# Altium schematic symbol library BMS_Master.SchLib: 20 symbols
Pins are listed as number, name and electrical type; pins without a type are passive.

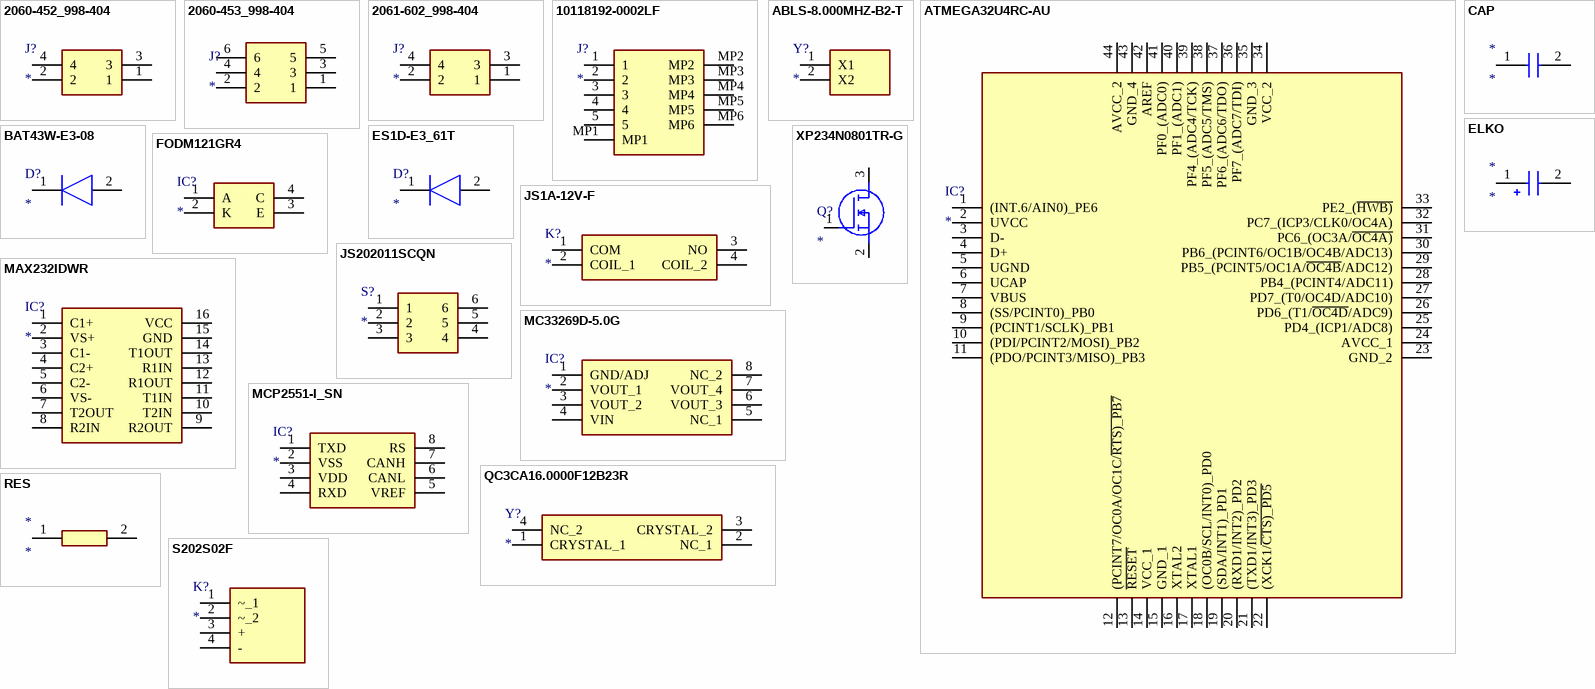
[diagram p0: symbols 2060-452_998-404 to XP234N0801TR-G]

## 2060-452_998-404
designator J?
Connector; Manufacturer_Name: Wago; Manufacturer_Part_Number: 2061-602/998-404; Arrow Part Number: 2060-452/998-404; Arrow Price/Stock: https://www.arrow.com/en/products/2060-452998-404/wago-kontakttechnik-gmbh?region=nac
footprint 2060-452998-404
pins: 1, 2, 3, 4

## 2060-453_998-404
designator J?
Connector; Manufacturer_Name: Wago; Manufacturer_Part_Number: 2060-452/998-404; Arrow Part Number: 2060-452/998-404; Arrow Price/Stock: https://www.arrow.com/en/products/2060-452998-404/wago-kontakttechnik-gmbh?region=nac
footprint 2060-453998-404
pins: 1, 2, 3, 4, 5, 6

## 2061-602_998-404
designator J?
Connector; Manufacturer_Name: Wago; Manufacturer_Part_Number: 2060-452/998-404; Arrow Part Number: 2060-452/998-404; Arrow Price/Stock: https://www.arrow.com/en/products/2060-452998-404/wago-kontakttechnik-gmbh?region=nac
footprint 2061-602998-404
pins: 1, 2, 3, 4

## 10118192-0002LF
designator J?
Connector; Manufacturer_Name: Amphenol; Manufacturer_Part_Number: 10118192-0002LF; Datasheet Link: https://componentsearchengine.com/Datasheets/1/10118192-0002LF.pdf; Height: 3.05mm; Mouser Part Number: 649-10118192-0002LF; Mouser Price/Stock: https://www.mouser.co.uk/ProductDetail/Amphenol-FCI/10118192-0002LF?qs=KVgMXE4aH4nIkuWlMxQzog%3D%3D; Arrow Part Number: 10118192-0002LF; Arrow Price/Stock: https://www.arrow.com/en/products/10118192-0002lf/amphenol-fci?region=nac
footprint 101181920002LF
pins: 1, 2, 3, 4, 5, MP1, MP2, MP3, MP4, MP5, MP6

## ABLS-8.000MHZ-B2-T
designator Y?
Crystal or Oscillator; Manufacturer_Name: ABRACON; Manufacturer_Part_Number: ABLS-8.000MHZ-B2-T; Datasheet Link: http://www.abracon.com/Resonators/abls.pdf; Height: 4.2mm; Mouser Part Number: 815-ABLS-8-B2; Mouser Price/Stock: https://www.mouser.co.uk/ProductDetail/ABRACON/ABLS-8000MHZ-B2-T?qs=H8AWquzS%2FlOPBpG0T30dWA%3D%3D; Arrow Part Number: ABLS-8.000MHZ-B2-T; Arrow Price/Stock: https://www.arrow.com/en/products/abls-8.000mhz-b2-t/abracon?region=nac
footprint ABLS8000MHZB2T
pins: 1 X1, 2 X2

## ATMEGA32U4RC-AU
designator IC?
Integrated Circuit; Manufacturer_Name: Microchip; Manufacturer_Part_Number: ATMEGA32U4RC-AU; Datasheet Link: http://uk.rs-online.com/web/p/products/7380451; Height: 1.2mm; Mouser Part Number: 556-ATMEGA32U4RC-AU; Mouser Price/Stock: https://www.mouser.co.uk/ProductDetail/Microchip-Technology-Atmel/ATMEGA32U4RC-AU?qs=7AReRZHh%2FSt%252BRqfzkW8%2FkA%3D%3D; Arrow Part Number: ATMEGA32U4RC-AU; Arrow Price/Stock: https://www.arrow.com/en/products/atmega32u4rc-au/microchip-technology?region=nac
footprint QFP80P1200X1200X120-44N
pins: 1 (INT.6/AIN0)_PE6, 2 UVCC, 3 D-, 4 D+, 5 UGND, 6 UCAP, 7 VBUS, 8 (SS/PCINT0)_PB0, 9 (PCINT1/SCLK)_PB1, 10 (PDI/PCINT2/MOSI)_PB2, 11 (PDO/PCINT3/MISO)_PB3, 12 (PCINT7/OC0A/OC1C/~{RTS)_PB7}, 13 ~{RESET}, 14 VCC_1, 15 GND_1, 16 XTAL2, 17 XTAL1, 18 (OC0B/SCL/INT0)_PD0, 19 (SDA/INT1)_PD1, 20 (RXD1/INT2)_PD2, 21 (TXD1/INT3)_PD3, 22 (XCK1/~{CTS)_PD5}, 23 GND_2, 24 AVCC_1, 25 PD4_(ICP1/ADC8), 26 PD6_(T1/~{OC4D}/ADC9), 27 PD7_(T0/OC4D/ADC10), 28 PB4_(PCINT4/ADC11), 29 PB5_(PCINT5/OC1A/~{OC4B}/ADC12), 30 PB6_(PCINT6/OC1B/OC4B/ADC13), 31 PC6_(OC3A/~{OC4A)}, 32 PC7_(ICP3/CLK0/OC4A), 33 PE2_(~{HWB)}, 34 VCC_2, 35 GND_3, 36 PF7_(ADC7/TDI), 37 PF6_(ADC6/TDO), 38 PF5_(ADC5/TMS), 39 PF4_(ADC4/TCK), 40 PF1_(ADC1), 41 PF0_(ADC0), 42 AREF, 43 GND_4, 44 AVCC_2

## BAT43W-E3-08
designator D?
Diode; Manufacturer_Name: Vishay; Manufacturer_Part_Number: BAT43W-E3-08; Description: Schottky Diodes & Rectifiers 30Volt 200mA 4A IFSM; Datasheet Link: https://www.arrow.com/en/products/bat43w-e3-08/vishay; Height: 1.35mm; Mouser Part Number: 78-BAT43W-E3-08; Mouser Price/Stock: https://www.mouser.co.uk/ProductDetail/Vishay-Semiconductors/BAT43W-E3-08?qs=KP8Io%2FXyE5RCw3lmmA3XwQ%3D%3D; Arrow Part Number: BAT43W-E3-08; Arrow Price/Stock: https://www.arrow.com/en/products/bat43w-e3-08/vishay?region=nac
footprint SOD3716X135N
pins: 1 K, 2 A

## CAP
designator *
footprint CAPC1608X90N
pins: 1, 2

## ELKO
designator *
footprint CAPAE530X550N
pins: 1 +, 2 -

## ES1D-E3_61T
designator D?
Diode; Manufacturer_Name: Vishay; Manufacturer_Part_Number: ES1D-E3/61T; Datasheet Link: https://componentsearchengine.com/Datasheets/2/ES1D-E3_61T.pdf; Height: 2.29mm; Mouser Part Number: 625-ES1D-E3; Mouser Price/Stock: https://www.mouser.co.uk/ProductDetail/Vishay-General-Semiconductor/ES1D-E3-61T?qs=rfh7uIuiIO0XwaKoN5aNdQ%3D%3D; Arrow Part Number: ES1D-E3/61T; Arrow Price/Stock: https://www.arrow.com/en/products/es1d-e361t/vishay
footprint DIOM5127X229N
pins: 1 K, 2 A

## FODM121GR4
designator IC?
Integrated Circuit; Manufacturer_Name: ON Semiconductor; Manufacturer_Part_Number: FODM121GR4; Datasheet Link: https://www.onsemi.com/pub/Collateral/FODM2705-D.pdf; Height: 2.4mm; Mouser Part Number: 863-FODM121GR4; Mouser Price/Stock: https://www.mouser.co.uk/ProductDetail/onsemi/FODM121GR4?qs=byeeYqUIh0Okw76KHw6rZA%3D%3D
footprint SOP254P675X240-4N
pins: 1 A, 2 K, 3 E, 4 C

## JS1A-12V-F
designator K?
Relay or Contactor; Manufacturer_Name: Panasonic; Manufacturer_Part_Number: JS1A-12V-F; Datasheet Link: https://componentsearchengine.com/Datasheets/2/JS1A-12V-F.pdf; Height: 16.4mm; Mouser Part Number: 769-JS1A-12V-F; Mouser Price/Stock: https://www.mouser.co.uk/ProductDetail/Panasonic/JS1A-12V-F?qs=sEN%2FkO1EG6bHk8GQE7PEaQ%3D%3D; Arrow Part Number: JS1A-12V-F; Arrow Price/Stock: https://www.arrow.com/en/products/js1a-12v-f/panasonic
footprint JS1A12VF
pins: 1 COM, 2 COIL_1, 3 NO, 4 COIL_2

## JS202011SCQN
designator S?
Switch; Manufacturer_Name: C & K COMPONENTS; Manufacturer_Part_Number: JS202011SCQN; Datasheet Link: http://www.ckswitches.com/media/1422/js.pdf; Height: 5.5mm; Mouser Part Number: 611-JS202011SCQN; Mouser Price/Stock: https://www.mouser.co.uk/ProductDetail/CK/JS202011SCQN?qs=LgMIjt8LuD95JYWxZ7NvZA%3D%3D; Arrow Part Number: JS202011SCQN; Arrow Price/Stock: https://www.arrow.com/en/products/js202011scqn/ck?region=nac
footprint JS202011SCQN
pins: 1, 2, 3, 4, 5, 6

## MAX232IDWR
designator IC?
Integrated Circuit; Manufacturer_Name: Texas Instruments; Manufacturer_Part_Number: MAX232IDWR; Datasheet Link: http://www.ti.com/lit/gpn/max232?HQS=ti-null-null-sf-df-pf-sep-wwe&DCM=yes; Height: 2.65mm; Mouser Part Number: 595-MAX232IDWR; Mouser Price/Stock: https://www.mouser.co.uk/ProductDetail/Texas-Instruments/MAX232IDWR?qs=NLW4NjXEBS5p6v4OAKxw4g%3D%3D; Arrow Part Number: MAX232IDWR; Arrow Price/Stock: https://www.arrow.com/en/products/max232idwr/texas-instruments?region=nac
footprint SOIC127P1030X265-16N
pins: 1 C1+, 2 VS+, 3 C1-, 4 C2+, 5 C2-, 6 VS-, 7 T2OUT, 8 R2IN, 9 R2OUT, 10 T2IN, 11 T1IN, 12 R1OUT, 13 R1IN, 14 T1OUT, 15 GND, 16 VCC

## MC33269D-5.0G
designator IC?
Integrated Circuit; Manufacturer_Name: ON Semiconductor; Manufacturer_Part_Number: MC33269D-5.0G; Datasheet Link: http://www.onsemi.com/pub/Collateral/MC33269-D.PDF; Height: 1.75mm; Mouser Part Number: 863-MC33269D-5.0G; Mouser Price/Stock: https://www.mouser.co.uk/ProductDetail/onsemi/MC33269D-50G?qs=dFKnUM%2FquJZ0YuZ%252B66PKCA%3D%3D; Arrow Part Number: MC33269D-5.0G; Arrow Price/Stock: https://www.arrow.com/en/products/mc33269d-5.0g/on-semiconductor?region=nac
footprint SOIC127P600X175-8N
pins: 1 GND/ADJ, 2 VOUT_1, 3 VOUT_2, 4 VIN, 5 NC_1, 6 VOUT_3, 7 VOUT_4, 8 NC_2

## MCP2551-I_SN
designator IC?
Integrated Circuit; Manufacturer_Name: Microchip; Manufacturer_Part_Number: MCP2551-I/SN; Datasheet Link: https://datasheet.datasheetarchive.com/originals/distributors/Datasheets-34/DSA-674994.pdf; Height: 1.75mm; Mouser Part Number: 579-MCP2551-I/SN; Mouser Price/Stock: https://www.mouser.co.uk/ProductDetail/Microchip-Technology/MCP2551-I-SN?qs=9y3LFqDLL8L5zFfqqxdOHg%3D%3D; Arrow Part Number: MCP2551-I/SN; Arrow Price/Stock: https://www.arrow.com/en/products/mcp2551-isn/microchip-technology?region=nac
footprint SOIC127P600X175-8N
pins: 1 TXD, 2 VSS, 3 VDD, 4 RXD, 5 VREF, 6 CANL, 7 CANH, 8 RS

## QC3CA16.0000F12B23R
designator Y?
Crystal or Oscillator; Manufacturer_Name: Qantek; Manufacturer_Part_Number: QC3CA16.0000F12B23R; Height: 1.1mm
footprint QC3CA160000F12B23R
pins: 1 CRYSTAL_1, 2 NC_1, 3 CRYSTAL_2, 4 NC_2

## RES
designator *
footprint RESC1608X55N
pins: 1, 2

## S202S02F
designator K?
Relay or Contactor; Manufacturer_Name: Sharp Microelectronics; Manufacturer_Part_Number: S202S02F; Datasheet Link: https://componentsearchengine.com/Datasheets/1/S202S02F.pdf; Height: 5mm; Mouser Part Number: N/A; Mouser Price/Stock: https://www.mouser.co.uk/ProductDetail/Sharp-Microelectronics/S202S02F?qs=ijfXDZrNBl2UPSyCAmWZ0A%3D%3D
footprint S202S12
pins: 1 ~_1, 2 ~_2, 3 +, 4 -

## XP234N0801TR-G
designator Q?
MOSFET (N-Channel); Manufacturer_Name: Torex; Manufacturer_Part_Number: XP234N0801TR-G; Datasheet Link: https://4donline.ihs.com/images/VipMasterIC/IC/TOSL/TOSL-S-A0008892481/TOSL-S-A0008892481-1.pdf?hkey=CECEF36DEECDED6468708AAF2E19C0C6; Height: 1.15mm; Mouser Part Number: 865-XP234N0801TR-G; Mouser Price/Stock: https://www.mouser.co.uk/ProductDetail/Torex-Semiconductor/XP234N0801TR-G?qs=BJlw7L4Cy7%252BWe%2FbHvnXcKQ%3D%3D
footprint SOT95P240X115-3N
pins: 1 G, 2 S, 3 D